# Altium footprint library PCB - DIODES - FP-GF1M-E3-67A-MFG.PcbLib: 1 footprints
Each footprint in its own frame and in the unit in brackets; x right, y up, seen from the top. Pads: shape width x height; smd on the part's side, far side on the other; paste and mask are expansions set on the pad; w line width, h text height; cw(c..) or ccw(c..) is an arc to the next point about the centre after c.
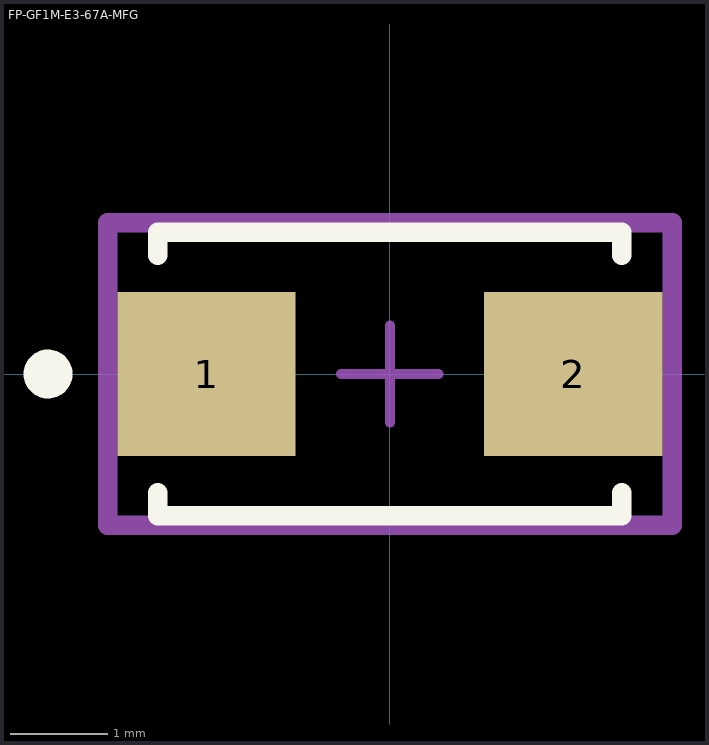
[diagram p0: the footprint, top view; thin cyan lines are the x and y axes]

## FP-GF1M-E3-67A-MFG [mm]
pads (2):
  rect 1.825x1.68 smd paste+0 mask+0: 1(-1.877,0) 2(1.877,0)
Top Overlay:
  circle w0.25: c-3.5,0 r0.125
  lines w0.2: -2.375,-1.215 -2.375,-1.45 2.375,-1.45 2.375,-1.215 ; -2.375,1.215 -2.375,1.45 2.375,1.45 2.375,1.215
Top Assembly:
  lines w0.2: -2.89,-1.55 2.89,-1.55 2.89,1.55 -2.89,1.55 -2.89,-1.55
Top Courtyard:
  lines w0.2: -2.89,-1.55 2.89,-1.55 2.89,1.55 -2.89,1.55 -2.89,-1.55
Top Designator:
  text ".Designator" at 0,0.188 h1
Top Component Center:
  lines w0.1: -0.5,0 0.5,0 ; 0,-0.5 0,0.5
3D body "Diode_Vishay_GF1M-E3-67A_eec.STEP": height 0.25, standoff 0, extent -2.89,-1.55 2.89,1.55